# EAGLE library part 1035D (library adafruit)
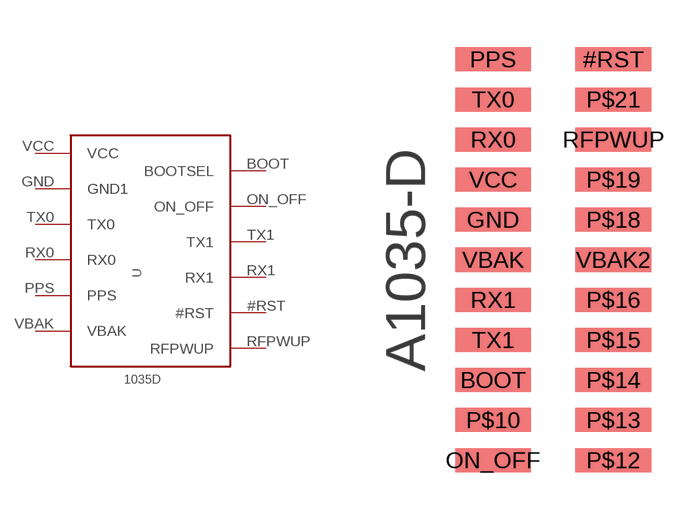
[diagram p34: symbol with the pads of 1035D; footprint 1035D]

Designator prefix -

## 1035D  [1035D]
#RST  #RST  in
BOOT  BOOTSEL  in
GND  GND1  sup
ON_OFF  ON_OFF  in
PPS  PPS  out
RFPWUP  RFPWUP  out
RX0  RX0  in
RX1  RX1  in
TX0  TX0  out
TX1  TX1  out
VBAK  VBAK  sup
VCC  VCC  sup

## Footprint 1035D (pad centres in mm)
smd 2.4 x 0.76: #RST 16.96,6.39; BOOT 13.15,-3.77; GND 13.15,1.31; ON_OFF 13.15,-6.31; P$10 13.15,-5.04; P$12 16.96,-6.31; P$13 16.96,-5.04; P$14 16.96,-3.77; P$15 16.96,-2.5; P$16 16.96,-1.23; P$18 16.96,1.31; P$19 16.96,2.58; P$21 16.96,5.12; PPS 13.15,6.39; RFPWUP 16.96,3.85; RX0 13.15,3.85; RX1 13.15,-1.23; TX0 13.15,5.12; TX1 13.15,-2.5; VBAK 13.15,0.04; VBAK2 16.96,0.04; VCC 13.15,2.58